# Altium footprint library WE-MPSB.PcbLib: 10 footprints
Each footprint in its own frame and in the unit in brackets; x right, y up, seen from the top. Pads: shape width x height; smd on the part's side, far side on the other; paste and mask are expansions set on the pad; w line width, h text height; cw(c..) or ccw(c..) is an arc to the next point about the centre after c.
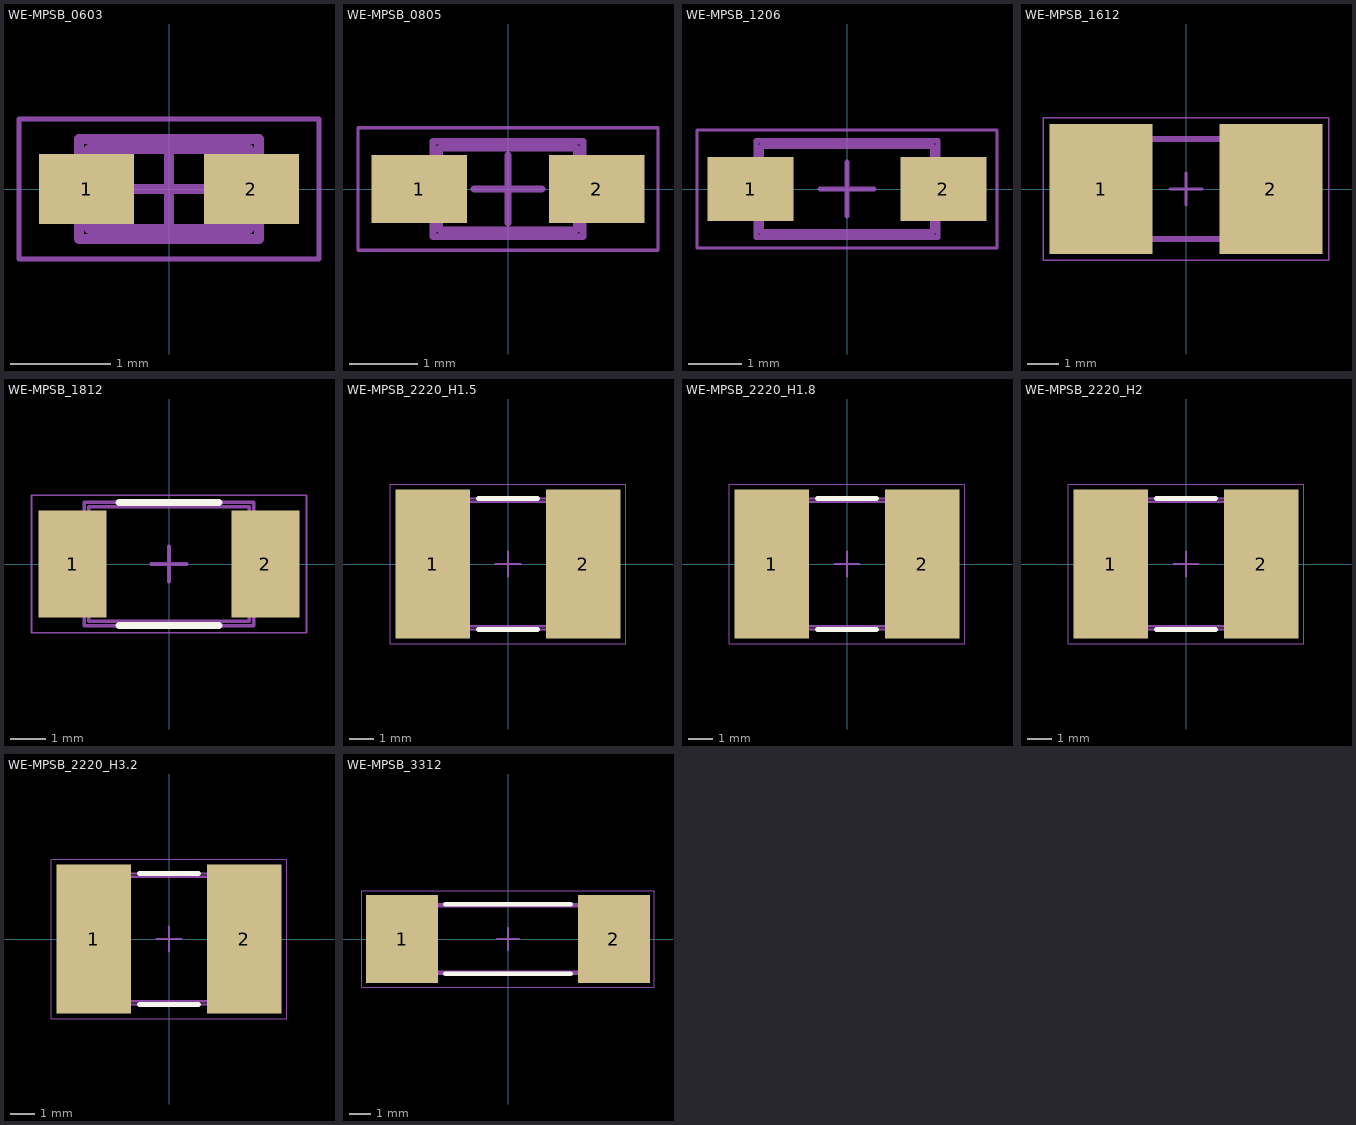
[diagram p0: the footprints below, top view; thin cyan lines are the x and y axes]

## WE-MPSB_0603 [mm] "SMD EMI Multilayer Power Suppression Bead, body 1.60x0.80mm"
height 1
pads (2):
  rect 0.95x0.7 smd: 1(-0.825,0) 2(0.825,0)
Top Assembly:
  lines w0.1: -0.9,-0.5 -0.9,0.5 0.9,0.5 0.9,-0.5 -0.9,-0.5
Top Designator:
  text ".Designator" at -3.647,-0.357 h1
Top 3D Body:
  lines w0.1: -0.8,-0.4 -0.8,0.4 0.8,0.4 0.8,-0.4 -0.8,-0.4
Top Courtyard:
  lines w0.05: -1.5,-0.7 -1.5,0.7 1.5,0.7 1.5,-0.7 -1.5,-0.7
Top Component Center:
  lines w0.1: -0.5,0 0.5,0 ; 0,-0.5 0,0.5
3D body "WE-MPSB_0603_L1.6W0.8H0.8.stp": height 0.8, standoff 0, extent -0.8,-0.4 0.8,0.4

## WE-MPSB_0805 [mm] "SMD EMI Multilayer Power Suppression Bead, body 2.00x1.20mm"
height 1.1
pads (2):
  rect 1.4x1 smd: 1(-1.3,0) 2(1.3,0)
Top Assembly:
  lines w0.1: -1.1,-0.7 1.1,-0.7 1.1,0.7 -1.1,0.7 -1.1,-0.7
Top Designator:
  text ".Designator" at -3.647,-0.357 h1
Top 3D Body:
  lines w0.1: -1,-0.6 1,-0.6 1,0.6 -1,0.6 -1,-0.6
Top Courtyard:
  lines w0.05: -2.2,-0.9 2.2,-0.9 2.2,0.9 -2.2,0.9 -2.2,-0.9
Top Component Center:
  lines w0.1: -0.5,0 0.5,0 ; 0,-0.5 0,0.5
3D body "WE-MPSB_0805_L2W1.2H0.9.stp": height 0.9, standoff 0, extent -1,-0.6 1,0.6

## WE-MPSB_1206 [mm] "SMD EMI Multilayer Power Suppression Bead, body 3.20x1.60mm"
height 1.3
pads (2):
  rect 1.6x1.2 smd: 1(-1.8,0) 2(1.8,0)
Top Assembly:
  lines w0.1: -1.7,-0.9 1.7,-0.9 1.7,0.9 -1.7,0.9 -1.7,-0.9
Top Designator:
  text ".Designator" at -3.647,-0.357 h1
Top 3D Body:
  lines w0.1: -1.6,-0.8 1.6,-0.8 1.6,0.8 -1.6,0.8 -1.6,-0.8
Top Courtyard:
  lines w0.05: -2.8,-1.1 -2.8,1.1 2.8,1.1 2.8,-1.1 -2.8,-1.1
Top Component Center:
  lines w0.1: -0.5,0 0.5,0 ; 0,-0.5 0,0.5
3D body "WE-MPSB_1206_L3.2W1.6H1.1.stp": height 1.1, standoff 0, extent -1.6,-0.8 1.6,0.8

## WE-MPSB_1612 [mm] "SMD EMI Multilayer Power Suppression Bead, body 4.06x3.05mm"
height 2.48
pads (2):
  rect 3.25x4.1 smd: 1(-2.675,0) 2(2.675,0)
Top Assembly:
  lines w0.1: -2.13,-1.625 2.13,-1.625 2.13,1.625 -2.13,1.625 -2.13,-1.625
Top Designator:
  text ".Designator" at -3.647,-0.357 h1
Top 3D Body:
  lines w0.1: -2.03,-1.525 2.03,-1.525 2.03,1.525 -2.03,1.525 -2.03,-1.525
Top Courtyard:
  lines w0.05: -4.5,-2.25 -4.5,2.25 4.5,2.25 4.5,-2.25 -4.5,-2.25
Top Component Center:
  lines w0.1: -0.5,0 0.5,0 ; 0,-0.5 0,0.5
3D body "WE-MPSB_1612_L4.06W3.05H2.28.stp": height 2.28, standoff 0, extent -2.03,-1.525 2.03,1.525

## WE-MPSB_1812 [mm] "SMD EMI Multilayer Power Suppression Bead, body 4.50x3.20mm"
height 2.55
pads (2):
  rect 1.9x3 smd: 1(-2.7,0) 2(2.7,0)
Top Overlay:
  lines w0.2: -1.4,-1.725 1.4,-1.725 ; -1.4,1.725 1.4,1.725
Top Assembly:
  lines w0.1: -2.375,-1.725 2.375,-1.725 2.375,1.725 -2.375,1.725 -2.375,-1.725
Top Designator:
  text ".Designator" at -3.647,-0.357 h1
Top 3D Body:
  lines w0.1: -2.25,-1.6 2.25,-1.6 2.25,1.6 -2.25,1.6 -2.25,-1.6
Top Courtyard:
  lines w0.05: -3.85,-1.925 -3.85,1.925 3.85,1.925 3.85,-1.925 -3.85,-1.925
Top Component Center:
  lines w0.1: -0.5,0 0.5,0 ; 0,-0.5 0,0.5
3D body "WE-MPSB_1812_L4.5W3.2H2.3.stp": height 2.3, standoff 0, extent -2.25,-1.6 2.25,1.6

## WE-MPSB_2220_H1.5 [mm] "SMD EMI Multilayer Power Suppression Bead, body 5.60x5.10mm"
height 1.75
pads (2):
  rect 3.05x6.1 smd: 1(-3.075,0) 2(3.075,0)
Top Overlay:
  lines w0.2: -1.2,-2.675 1.2,-2.675 ; -1.2,2.675 1.2,2.675
Top Assembly:
  lines w0.1: -3.055,-2.675 3.055,-2.675 3.055,2.675 -3.055,2.675 -3.055,-2.675
Top Designator:
  text ".Designator" at -3.647,-0.357 h1
Top 3D Body:
  lines w0.1: -2.8,-2.55 2.8,-2.55 2.8,2.55 -2.8,2.55 -2.8,-2.55
Top Courtyard:
  lines w0.05: -4.8,-3.25 -4.8,3.25 4.8,3.25 4.8,-3.25 -4.8,-3.25
Top Component Center:
  lines w0.1: -0.5,0 0.5,0 ; 0,-0.5 0,0.5
3D body "WE-MPSB_2220_L5.6W5.1H1.5.stp": height 1.51, standoff -0.01, extent -2.795,-2.54 2.795,2.54

## WE-MPSB_2220_H1.8 [mm] "SMD EMI Multilayer Power Suppression Bead, body 5.60x5.10mm"
height 2.05
pads (2):
  rect 3.05x6.1 smd: 1(-3.075,0) 2(3.075,0)
Top Overlay:
  lines w0.2: -1.2,-2.675 1.2,-2.675 ; -1.2,2.675 1.2,2.675
Top Assembly:
  lines w0.1: -3.055,-2.675 -3.055,2.675 3.055,2.675 3.055,-2.675 -3.055,-2.675
Top Designator:
  text ".Designator" at -3.647,-0.357 h1
Top 3D Body:
  lines w0.1: -2.8,-2.55 -2.8,2.55 2.8,2.55 2.8,-2.55 -2.8,-2.55
Top Courtyard:
  lines w0.05: -4.8,-3.25 4.8,-3.25 4.8,3.25 -4.8,3.25 -4.8,-3.25
Top Component Center:
  lines w0.1: -0.5,0 0.5,0 ; 0,-0.5 0,0.5
3D body "WE-MPSB_2220_L5.6W5.1H1.8.stp": height 1.8, standoff 0, extent -2.795,-2.54 2.795,2.54

## WE-MPSB_2220_H2 [mm] "SMD EMI Multilayer Power Suppression Bead, body 5.60x5.10mm"
height 2.25
pads (2):
  rect 3.05x6.1 smd: 1(-3.075,0) 2(3.075,0)
Top Overlay:
  lines w0.2: -1.2,-2.675 1.2,-2.675 ; -1.2,2.675 1.2,2.675
Top Assembly:
  lines w0.1: -3.055,-2.675 -3.055,2.675 3.055,2.675 3.055,-2.675 -3.055,-2.675
Top Designator:
  text ".Designator" at -3.647,-0.357 h1
Top 3D Body:
  lines w0.1: -2.8,-2.55 -2.8,2.55 2.8,2.55 2.8,-2.55 -2.8,-2.55
Top Courtyard:
  lines w0.05: -4.8,-3.25 4.8,-3.25 4.8,3.25 -4.8,3.25 -4.8,-3.25
Top Component Center:
  lines w0.1: -0.5,0 0.5,0 ; 0,-0.5 0,0.5
3D body "WE-MPSB_2220_L5.6W5.1H2.stp": height 1.98, standoff 0.02, extent -2.795,-2.54 2.795,2.54

## WE-MPSB_2220_H3.2 [mm] "SMD EMI Multilayer Power Suppression Bead, body 5.60x5.10mm"
height 3.45
pads (2):
  rect 3.05x6.1 smd: 1(-3.075,0) 2(3.075,0)
Top Overlay:
  lines w0.2: -1.2,-2.675 1.2,-2.675 ; -1.2,2.675 1.2,2.675
Top Assembly:
  lines w0.1: -3.055,-2.675 3.055,-2.675 3.055,2.675 -3.055,2.675 -3.055,-2.675
Top Designator:
  text ".Designator" at -3.647,-0.357 h1
Top 3D Body:
  lines w0.1: -2.8,-2.55 2.8,-2.55 2.8,2.55 -2.8,2.55 -2.8,-2.55
Top Courtyard:
  lines w0.05: -4.8,-3.25 -4.8,3.25 4.8,3.25 4.8,-3.25 -4.8,-3.25
Top Component Center:
  lines w0.1: -0.5,0 0.5,0 ; 0,-0.5 0,0.5
3D body "WE-MPSB_2220_L5.6W5.1H3.2.stp": height 3.2, standoff 0, extent -2.795,-2.54 2.795,2.54

## WE-MPSB_3312 [mm] "SMD EMI Multilayer Power Suppression Bead, body 8.50x3.00mm"
height 2.5
pads (2):
  rect 3.3x4.06 smd: 1(-4.89,0) 2(4.89,0)
Top Overlay:
  lines w0.2: -2.9,-1.6 2.9,-1.6 ; -2.9,1.6 2.9,1.6
Top Assembly:
  lines w0.1: -4.35,-1.6 -4.35,1.6 4.35,1.6 4.35,-1.6 -4.35,-1.6
Top Designator:
  text ".Designator" at -3.647,-0.357 h1
Top 3D Body:
  lines w0.1: -4.25,-1.5 -4.25,1.5 4.25,1.5 4.25,-1.5 -4.25,-1.5
Top Courtyard:
  lines w0.05: -6.74,-2.23 6.74,-2.23 6.74,2.23 -6.74,2.23 -6.74,-2.23
Top Component Center:
  lines w0.1: -0.5,0 0.5,0 ; 0,-0.5 0,0.5
3D body "WE-MPSB_3312_L8.5W3H2.3.stp": height 2.29, standoff 0.01, extent -4.25,-1.525 4.25,1.525